# Altium footprint library Header.PcbLib: 6 footprints
Each footprint in its own frame and in the unit in brackets; x right, y up, seen from the top. Pads: shape width x height; smd on the part's side, far side on the other; paste and mask are expansions set on the pad; w line width, h text height; cw(c..) or ccw(c..) is an arc to the next point about the centre after c.
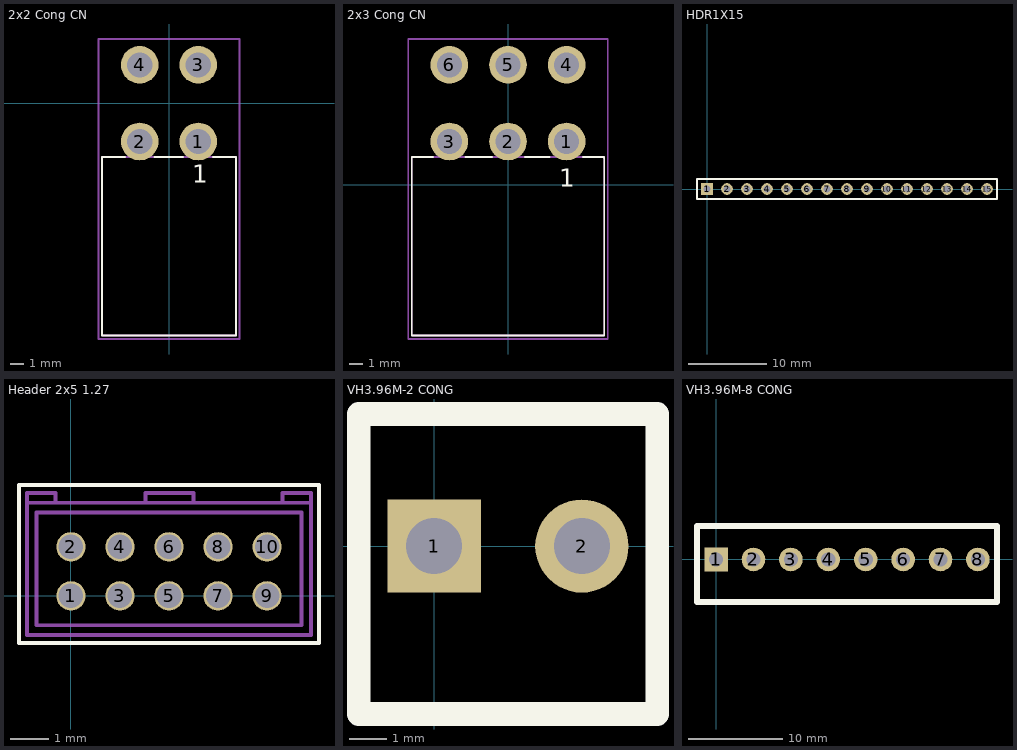
[diagram p0: the footprints below, top view; thin cyan lines are the x and y axes]

## 2x2 Cong CN [mm]
pads (4):
  round 2.7 hole 1.8: 1(2.1,-2.75) 2(-2.1,-2.75) 3(2.1,2.75) 4(-2.1,2.75)
Top Overlay:
  lines w0.127: -3.15,-3.85 -4.8,-3.85 -4.8,-16.65 4.8,-16.65 4.8,-3.85 3.15,-3.85 ; -1.05,-3.85 1,-3.85
  text "1" at 1.665,-5.7 h1.27
Mechanical 13:
  lines w0.127: -4.8,-16.65 -4.8,-3.85 4.8,-3.85 4.8,-16.65 -4.8,-16.65
  text "1" at 1.665,-5.7 h1.27
  text "4" at -2.535,-0.25 h1.27
Mechanical 15:
  lines w0.127: -5.05,-16.9 -5.05,4.6 5.05,4.6 5.05,-16.9 -5.05,-16.9
3D body "64900429522.stp": height 11.53, standoff -3.37, extent -4.833,-16.668 5.087,3.302

## 2x3 Cong CN [mm]
pads (6):
  round 2.7 hole 1.8: 1(4.2,3.092) 2(0,3.092) 3(-4.2,3.092) 4(4.2,8.592) 5(0,8.592) 6(-4.2,8.592)
Top Overlay:
  lines w0.127: -5.35,1.992 -6.9,1.992 -6.9,-10.808 6.9,-10.808 6.9,1.992 ; -3.05,1.992 -1.15,1.992 ; 1.2,1.992 3,1.992 ; 5.35,1.992 6.85,1.992 6.85,1.942
  text "1" at 3.665,-0.158 h1.27
Mechanical 13:
  lines w0.127: -6.9,-10.808 6.9,-10.808 6.9,1.992 -6.9,1.992 -6.9,-10.808
  text "6" at -4.6,5.547 h1.27
  text "1" at 3.665,-0.158 h1.27
Mechanical 15:
  lines w0.127: -7.15,-11.058 7.15,-11.058 7.15,10.442 -7.15,10.442 -7.15,-11.058
3D body "64900629522.stp": height 11.79, standoff -3.11, extent -6.9,-10.718 7.22,9.252

## HDR1X15 [mm] "Connector; Header; 15 Position"
pads (15):
  rect 1.5x1.5 hole 0.9: 1(0,0)
  round 1.5 hole 0.9: 2(2.54,0) 3(5.08,0) 4(7.62,0) 5(10.16,0) 6(12.7,0) 7(15.24,0) 8(17.78,0) 9(20.32,0) 10(22.86,0) 11(25.4,0) 12(27.94,0) 13(30.48,0) 14(33.02,0) 15(35.56,0)
Top Overlay:
  lines w0.2: -1.27,-1.27 -1.27,1.27 0.635,1.27 36.83,1.27 36.83,-1.27 -1.27,-1.27
3D body "Female2.54MM1x15x10MM.step": height 8, standoff -10, extent -1.27,-1.27 36.83,1.27

## Header 2x5 1.27 [mil]
pads (10):
  round 30 hole 25: 1(0,0) 2(0,50) 3(50,0) 4(50,50) 5(100,0) 6(100,50) 7(150,0) 8(150,50) 9(200,0) 10(200,50)
Top Overlay:
  lines w3.94: -53.03,-48.03 253.03,-48.03 253.03,113.03 -53.03,113.03 -53.03,-48.03
Mechanical 3:
  lines w3.94: -45,95 245,95 ; -45,95 -45,-40 245,-40 245,95 ; -45,95 -15.91,95 -15.91,105 -45,105 -45,95 ; 245,95 215.91,95 215.91,105 245,105 245,95 ; -35,-30 4.96,-30 104.96,-30 204.96,-30 235,-30 235,-20 235,84.96 225,84.96 135,84.96 35,84.96 -35,84.96 -35,-30 ; 75.91,95 125,95 125,105 75.91,105 75.91,95
3D body "User Library-3220-10-0100.STEP": height 213.6, standoff -81.68, extent -149.01,-76.97 349.02,125

## VH3.96M-2 CONG [mm]
pads (2):
  rect 2.5x2.5 hole 1.5: 1(0,0)
  round 2.5 hole 1.5: 2(3.96,0)
Top Overlay:
  lines w0.635: 5.94,3.5 5.98,3.54 ; 5.98,3.54 -2.02,3.54 -2.02,-4.5 5.98,-4.5 5.98,3.54
3D body "User Library-B2PS-VH.STEP": height 9.33, standoff -3.07, extent -1.95,-14.964 5.91,0.506

## VH3.96M-8 CONG [mm]
pads (8):
  rect 2.5x2.5 hole 1.5: 1(0,0)
  round 2.5 hole 1.5: 2(3.96,0) 3(7.92,0) 4(11.88,0) 5(15.84,0) 6(19.8,0) 7(23.76,0) 8(27.72,0)
Top Overlay:
  lines w0.635: -2.02,-4.5 29.74,-4.5 29.74,3.54 -2.02,3.54 -2.02,-4.5
3D body "??????_4??_8???.stp": height 7.55, standoff -2.95, extent -1.857,-14.819 29.543,0.381